# Altium footprint library 125SHA04TS.PcbLib: 1 footprints
Each footprint in its own frame and in the unit in brackets; x right, y up, seen from the top. Pads: shape width x height; smd on the part's side, far side on the other; paste and mask are expansions set on the pad; w line width, h text height; cw(c..) or ccw(c..) is an arc to the next point about the centre after c.
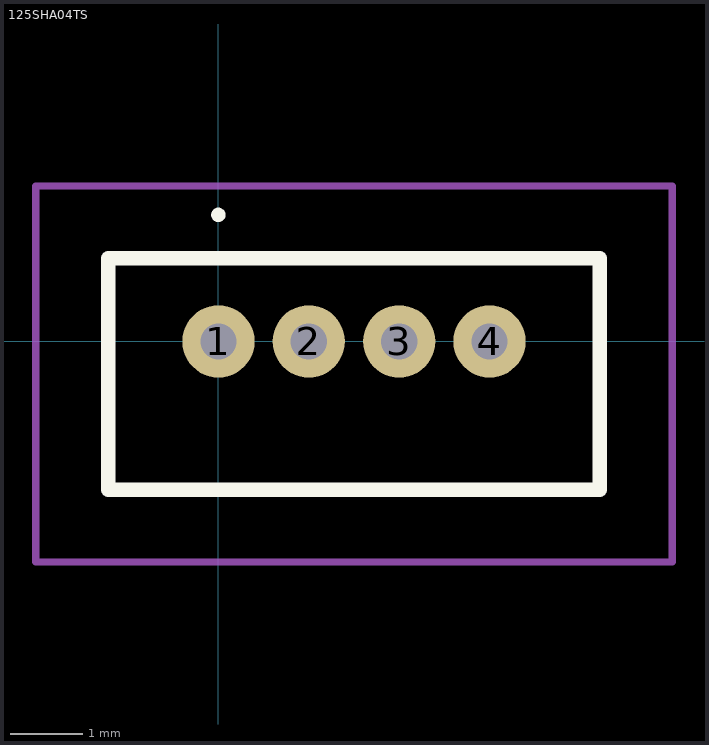
[diagram p0: the footprint, top view; thin cyan lines are the x and y axes]

## 125SHA04TS [mm]
pads (4):
  round 1 hole 0.5: 1(0,0) 2(1.25,0) 3(2.5,0) 4(3.75,0)
Top Overlay:
  lines w0.1: 0,1.7 cw(c0,1.75) 0,1.8 ; 0,1.7 0,1.7 ; 0,1.7 ccw(c0,1.75) 0,1.8 ; 0,1.8 0,1.8
  lines w0.2: -1.525,-2.05 5.275,-2.05 5.275,1.15 -1.525,1.15 -1.525,-2.05
Mechanical 15:
  lines w0.1: -1.525,-2.05 5.275,-2.05 5.275,1.15 -1.525,1.15 -1.525,-2.05
Mechanical 20:
  lines w0.1: -2.525,-3.05 6.275,-3.05 6.275,2.15 -2.525,2.15 -2.525,-3.05